# Altium schematic symbol library morse_code_watch.SchLib: 4 symbols
Pins are listed as number, name and electrical type; pins without a type are passive.

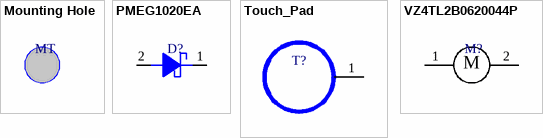
[diagram p0: symbols Mounting Hole to VZ4TL2B0620044P]

## Mounting Hole
designator MT
footprint Mounting Hole

## PMEG1020EA
designator D?
footprint PMEG1020EA
pins: 1, 2

## Touch_Pad
designator T?
pins: 1

## VZ4TL2B0620044P
designator M?
footprint VZ4TL2B0620044P
pins: 1, 2
text: M